# Altium schematic symbol library kmilo17pet-TI_LDO_0_350.SchLib: 1649 symbols (part 50 of 66)
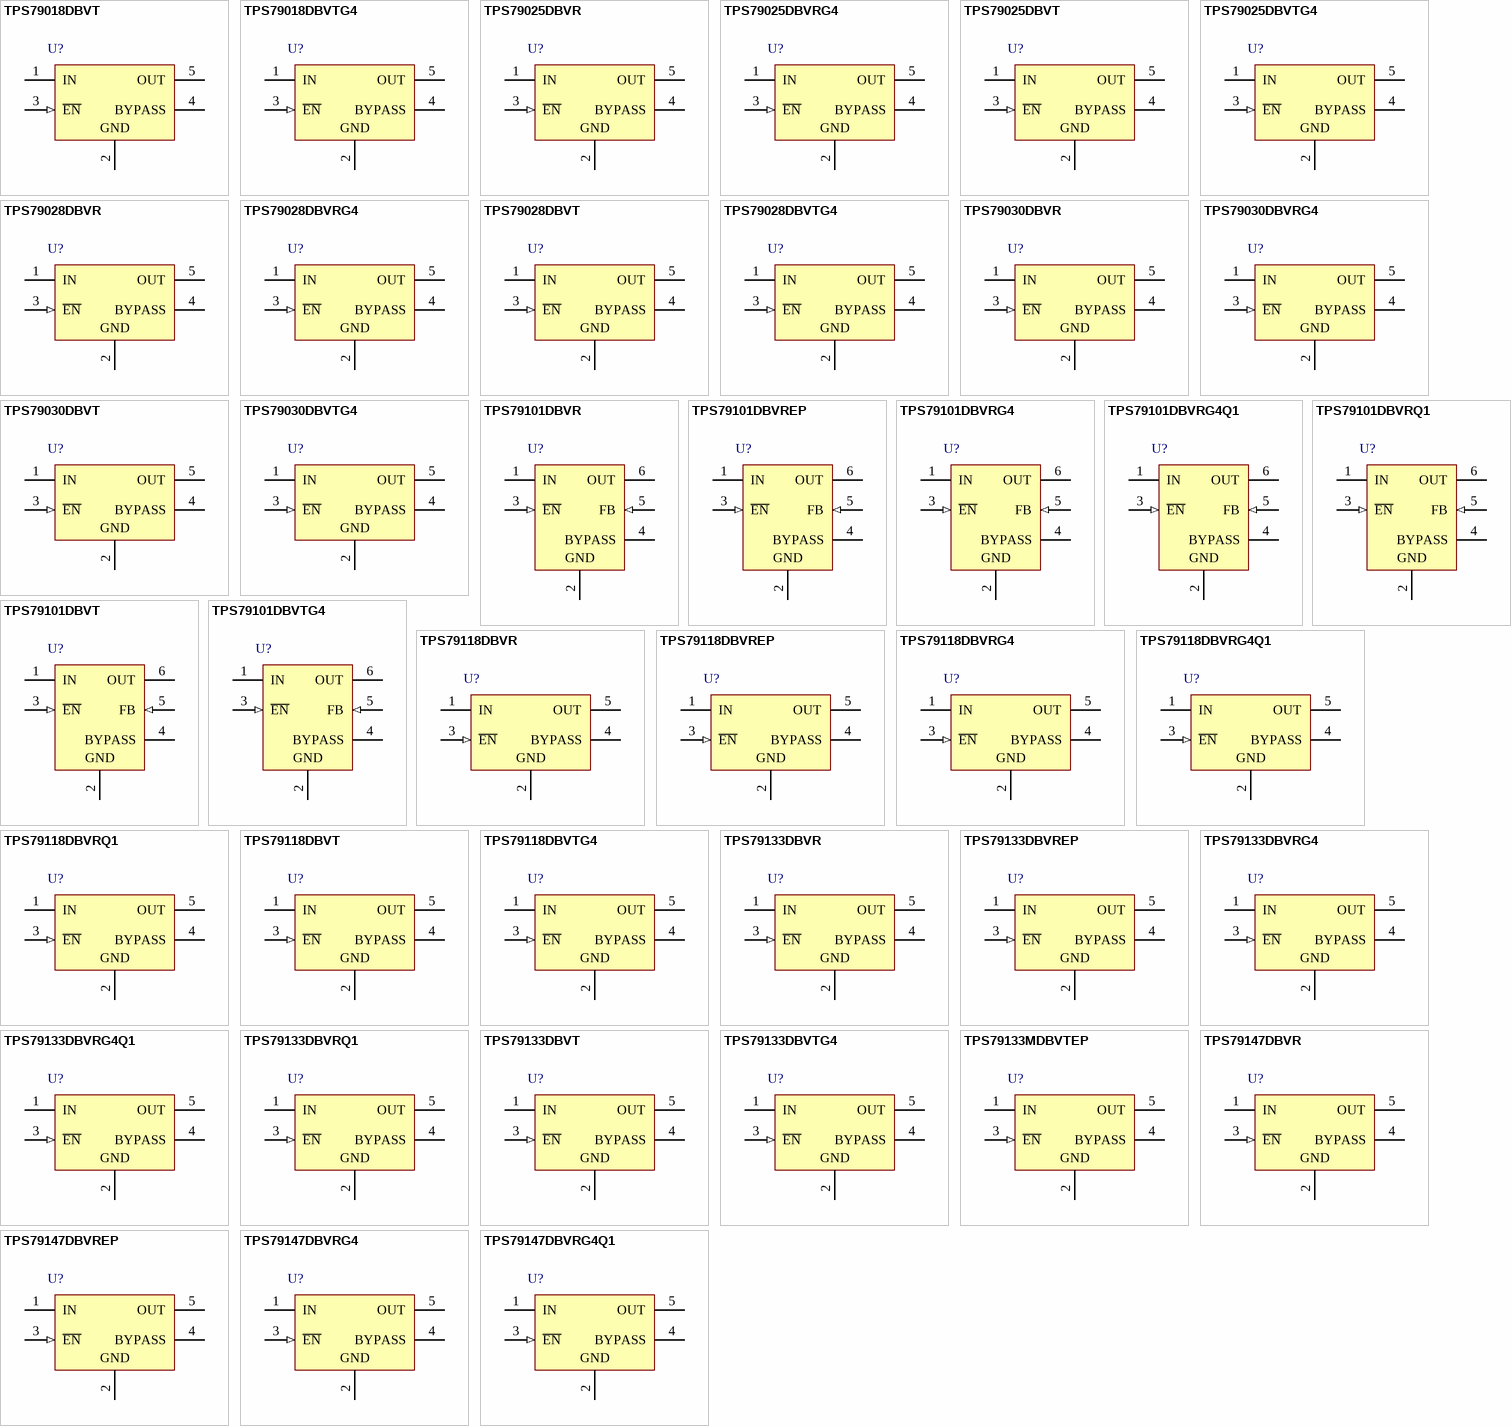
[diagram p91: symbols TPS79018DBVT to TPS79147DBVRG4Q1]

## TPS79133DBVRG4Q1
designator U?
Single Output High PSRR LDO, 100 mA, Fixed 3.3 V Output, 2.7 to 5.5 V Input, 5-pin SOT-23 (DBV), -40 to 125 degC, Green (RoHS & no Sb/Br); Manufacturer: Texas Instruments; PartNumber: TPS79133DBVRG4Q1; Accuracy(%): 2; Fixed Output Options(V): 3.3; Iout(Max)(A): 0.1; Iq(Typ)(mA): 0.2; Rating: Automotive; SubFamily: Single Channel LDO; Vdo(Typ)(mV): 50; Vin(Max)(V): 5.5; Vin(Min)(V): 2.7; DatasheetVersion: SGLS160B; PackageVersion: 4073253-4/K; PackageReference: DBV5; PackageDescription: 5-Pin Plastic Small Outline, Body 1.60 Ã— 2.90 mm, Pitch 0.95 mm; Supplier 1: Digi-Key; Supplier Part Number 1: 296-24442-2-ND; Supplier 2: Digi-Key; Supplier Part Number 2: 296-24442-1-ND; Supplier 3: Digi-Key; Supplier Part Number 3: 296-24442-6-ND; Supplier 4: Mouser; Supplier Part Number 4: 595-TPS79133DBVRG4Q1; Eco-Plan: Green (RoHS & no Sb/Br); Vout Adj(Max)(V): 3.3; Vout Adj(Min)(V): 3.3; Mounting Technology: Surface Mount; Code_JEDEC: MO-178; ComponentLink1Description: Manufacturer URL; ComponentLink1URL: http://www.ti.com/; ComponentLink2Description: Datasheet; ComponentLink2URL: http://www.ti.com/general/docs/lit/getliterature.tsp?genericPartNumber=TPS79133-Q1&fileType=pdf; ComponentLink3Description: Package Specification; ComponentLink3URL: http://www.ti.com/litv/pdf/mpds018i; ComponentLink4Description: URL Link1; ComponentLink4URL: Samples URL:http://www.ti.com/product/tps79133-q1#samples
footprint TI-DBV5_N (SOT23, 5-Leads, Body 2.9x1.6mm, Pitch 0.95mm, IPC Medium Density)
footprint TI-DBV5_L (SOT23, 5-Leads, Body 2.9x1.6mm, Pitch 0.95mm, IPC High Density)
footprint TI-DBV5_M (SOT23, 5-Leads, Body 2.9x1.6mm, Pitch 0.95mm, IPC Low Density)
pins: 1 IN (power) "The IN terminal is the input to the device.", 2 GND (power) "Regulator ground", 3 ~{EN} (in) "The E\N\ terminal is an input which enables or shuts down the device. When E\N\ is a logic high, the device will be in shutdown mode. When E\N\ is a logic low, the device will be enabled.", 4 BYPASS "An external bypass capacitor, connected to this terminal, in conjunction with an internal resistor, creates a low-pass filter to further reduce regulator noise.", 5 OUT (power) "The OUT terminal is the regulated output of the device."

## TPS79133DBVRQ1
designator U?
Single Output High PSRR LDO, 100 mA, Fixed 3.3 V Output, 2.7 to 5.5 V Input, 5-pin SOT-23 (DBV), -40 to 125 degC, Green (RoHS & no Sb/Br); Manufacturer: Texas Instruments; PartNumber: TPS79133DBVRQ1; Accuracy(%): 2; Fixed Output Options(V): 3.3; Iout(Max)(A): 0.1; Iq(Typ)(mA): 0.2; Rating: Automotive; SubFamily: Single Channel LDO; Vdo(Typ)(mV): 50; Vin(Max)(V): 5.5; Vin(Min)(V): 2.7; DatasheetVersion: SGLS160B; PackageVersion: 4073253-4/K; PackageReference: DBV5; PackageDescription: 5-Pin Plastic Small Outline, Body 1.60 Ã— 2.90 mm, Pitch 0.95 mm; Supplier 1: Digi-Key; Supplier Part Number 1: 296-15304-2-ND; Supplier 2: Digi-Key; Supplier Part Number 2: 296-15304-1-ND; Supplier 3: Digi-Key; Supplier Part Number 3: 296-15304-6-ND; Supplier 4: Mouser; Supplier Part Number 4: 595-TPS79133DBVRQ1; Eco-Plan: Green (RoHS & no Sb/Br); Vout Adj(Max)(V): 3.3; Vout Adj(Min)(V): 3.3; Mounting Technology: Surface Mount; Code_JEDEC: MO-178; ComponentLink1Description: Manufacturer URL; ComponentLink1URL: http://www.ti.com/; ComponentLink2Description: Datasheet; ComponentLink2URL: http://www.ti.com/general/docs/lit/getliterature.tsp?genericPartNumber=TPS79133-Q1&fileType=pdf; ComponentLink3Description: Package Specification; ComponentLink3URL: http://www.ti.com/litv/pdf/mpds018i; ComponentLink4Description: URL Link1; ComponentLink4URL: Samples URL:http://www.ti.com/product/tps79133-q1#samples
footprint TI-DBV5_N (SOT23, 5-Leads, Body 2.9x1.6mm, Pitch 0.95mm, IPC Medium Density)
footprint TI-DBV5_L (SOT23, 5-Leads, Body 2.9x1.6mm, Pitch 0.95mm, IPC High Density)
footprint TI-DBV5_M (SOT23, 5-Leads, Body 2.9x1.6mm, Pitch 0.95mm, IPC Low Density)
pins: 1 IN (power) "The IN terminal is the input to the device.", 2 GND (power) "Regulator ground", 3 ~{EN} (in) "The E\N\ terminal is an input which enables or shuts down the device. When E\N\ is a logic high, the device will be in shutdown mode. When E\N\ is a logic low, the device will be enabled.", 4 BYPASS "An external bypass capacitor, connected to this terminal, in conjunction with an internal resistor, creates a low-pass filter to further reduce regulator noise.", 5 OUT (power) "The OUT terminal is the regulated output of the device."

## TPS79133DBVT
designator U?
Single Output High PSRR LDO, 100 mA, Fixed 3.3 V Output, 2.7 to 5.5 V Input, 5-pin SOT-23 (DBV), -40 to 125 degC, Green (RoHS & no Sb/Br); Manufacturer: Texas Instruments; PartNumber: TPS79133DBVT; Accuracy(%): 2; Fixed Output Options(V): 3.3; Iout(Max)(A): 0.1; Iq(Typ)(mA): 0.2; Rating: Catalog; SubFamily: Single Channel LDO; Vdo(Typ)(mV): 50; Vin(Max)(V): 5.5; Vin(Min)(V): 2.7; DatasheetVersion: SLVS325C; PackageVersion: 4073253-4/K; PackageReference: DBV5; PackageDescription: 5-Pin Plastic Small Outline, Body 1.60 Ã— 2.90 mm, Pitch 0.95 mm; Supplier 1: Digi-Key; Supplier Part Number 1: 296-27096-2-ND; Supplier 2: Digi-Key; Supplier Part Number 2: 296-27096-1-ND; Supplier 3: Digi-Key; Supplier Part Number 3: 296-27096-6-ND; Supplier 4: Farnell; Supplier Part Number 4: 8461767; Supplier 5: Farnell; Supplier Part Number 5: 8461767RL; Supplier 6: Newark; Supplier Part Number 6: 77C1347; Supplier 7: Mouser; Supplier Part Number 7: 595-TPS79133DBVT; Eco-Plan: Green (RoHS & no Sb/Br); Vout Adj(Max)(V): 3.3; Vout Adj(Min)(V): 3.3; Mounting Technology: Surface Mount; Code_JEDEC: MO-178; ComponentLink1Description: Manufacturer URL; ComponentLink1URL: http://www.ti.com/; ComponentLink2Description: Datasheet; ComponentLink2URL: http://www.ti.com/general/docs/lit/getliterature.tsp?genericPartNumber=TPS79133&fileType=pdf; ComponentLink3Description: Package Specification; ComponentLink3URL: http://www.ti.com/litv/pdf/mpds018i; ComponentLink4Description: URL Link1; ComponentLink4URL: Samples URL:http://www.ti.com/product/tps79133#samples
footprint TI-DBV5_N (SOT23, 5-Leads, Body 2.9x1.6mm, Pitch 0.95mm, IPC Medium Density)
footprint TI-DBV5_L (SOT23, 5-Leads, Body 2.9x1.6mm, Pitch 0.95mm, IPC High Density)
footprint TI-DBV5_M (SOT23, 5-Leads, Body 2.9x1.6mm, Pitch 0.95mm, IPC Low Density)
pins: 1 IN (power) "The IN terminal is the input to the device.", 2 GND (power) "Regulator ground", 3 ~{EN} (in) "The E\N\ terminal is an input which enables or shuts down the device. When E\N\ is a logic high, the device will be in shutdown mode. When E\N\ is a logic low, the device will be enabled.", 4 BYPASS "An external bypass capacitor, connected to this terminal, in conjunction with an internal resistor, creates a low-pass filter to further reduce regulator noise.", 5 OUT (power) "The OUT terminal is the regulated output of the device."

## TPS79133DBVTG4
designator U?
Single Output High PSRR LDO, 100 mA, Fixed 3.3 V Output, 2.7 to 5.5 V Input, 5-pin SOT-23 (DBV), -40 to 125 degC, Green (RoHS & no Sb/Br); Manufacturer: Texas Instruments; PartNumber: TPS79133DBVTG4; Accuracy(%): 2; Fixed Output Options(V): 3.3; Iout(Max)(A): 0.1; Iq(Typ)(mA): 0.2; Rating: Catalog; SubFamily: Single Channel LDO; Vdo(Typ)(mV): 50; Vin(Max)(V): 5.5; Vin(Min)(V): 2.7; DatasheetVersion: SLVS325C; PackageVersion: 4073253-4/K; PackageReference: DBV5; PackageDescription: 5-Pin Plastic Small Outline, Body 1.60 Ã— 2.90 mm, Pitch 0.95 mm; Supplier 1: Digi-Key; Supplier Part Number 1: TPS79133DBVTG4-ND; Supplier 2: Newark; Supplier Part Number 2: 71J8291; Supplier 3: Mouser; Supplier Part Number 3: 595-TPS79133DBVTG4; Eco-Plan: Green (RoHS & no Sb/Br); Vout Adj(Max)(V): 3.3; Vout Adj(Min)(V): 3.3; Mounting Technology: Surface Mount; Code_JEDEC: MO-178; ComponentLink1Description: Manufacturer URL; ComponentLink1URL: http://www.ti.com/; ComponentLink2Description: Datasheet; ComponentLink2URL: http://www.ti.com/general/docs/lit/getliterature.tsp?genericPartNumber=TPS79133&fileType=pdf; ComponentLink3Description: Package Specification; ComponentLink3URL: http://www.ti.com/litv/pdf/mpds018i; ComponentLink4Description: URL Link1; ComponentLink4URL: Samples URL:http://www.ti.com/product/tps79133#samples
footprint TI-DBV5_N (SOT23, 5-Leads, Body 2.9x1.6mm, Pitch 0.95mm, IPC Medium Density)
footprint TI-DBV5_L (SOT23, 5-Leads, Body 2.9x1.6mm, Pitch 0.95mm, IPC High Density)
footprint TI-DBV5_M (SOT23, 5-Leads, Body 2.9x1.6mm, Pitch 0.95mm, IPC Low Density)
pins: 1 IN (power) "The IN terminal is the input to the device.", 2 GND (power) "Regulator ground", 3 ~{EN} (in) "The E\N\ terminal is an input which enables or shuts down the device. When E\N\ is a logic high, the device will be in shutdown mode. When E\N\ is a logic low, the device will be enabled.", 4 BYPASS "An external bypass capacitor, connected to this terminal, in conjunction with an internal resistor, creates a low-pass filter to further reduce regulator noise.", 5 OUT (power) "The OUT terminal is the regulated output of the device."

## TPS79133MDBVTEP
designator U?
Single Output High PSRR LDO, 100 mA, Fixed 3.3 V Output, 2.7 to 5.5 V Input, 5-pin SOT-23 (DBV), -55 to 125 degC, Green (RoHS & no Sb/Br); Manufacturer: Texas Instruments; PartNumber: TPS79133MDBVTEP; Accuracy(%): 2; Fixed Output Options(V): 3.3; Iout(Max)(A): 0.1; Iq(Typ)(mA): 0.2; Rating: HiRel Enhanced Product; SubFamily: Single Channel LDO; Vdo(Typ)(mV): 50; Vin(Max)(V): 5.5; Vin(Min)(V): 2.7; DatasheetVersion: SGLS161A; PackageVersion: 4073253-4/K; PackageReference: DBV5; PackageDescription: 5-Pin Plastic Small Outline, Body 1.60 Ã— 2.90 mm, Pitch 0.95 mm; Supplier 1: Arrow; Supplier Part Number 1: 45937695S8045433N2415; Supplier 2: Digi-Key; Supplier Part Number 2: 296-23592-2-ND; Supplier 3: Digi-Key; Supplier Part Number 3: 296-23592-1-ND; Supplier 4: Digi-Key; Supplier Part Number 4: 296-23592-6-ND; Supplier 5: Newark; Supplier Part Number 5: 79R8614; Supplier 6: Mouser; Supplier Part Number 6: 595-TPS79133MDBVTEP; Eco-Plan: Green (RoHS & no Sb/Br); Vout Adj(Max)(V): 3.3; Vout Adj(Min)(V): 3.3; Mounting Technology: Surface Mount; Code_JEDEC: MO-178; ComponentLink1Description: Manufacturer URL; ComponentLink1URL: http://www.ti.com/; ComponentLink2Description: Datasheet; ComponentLink2URL: http://www.ti.com/general/docs/lit/getliterature.tsp?genericPartNumber=TPS79133-EP&fileType=pdf; ComponentLink3Description: Package Specification; ComponentLink3URL: http://www.ti.com/litv/pdf/mpds018i; ComponentLink4Description: URL Link1; ComponentLink4URL: Samples URL:http://www.ti.com/product/tps79133-ep#samples
footprint TI-DBV5_N (SOT23, 5-Leads, Body 2.9x1.6mm, Pitch 0.95mm, IPC Medium Density)
footprint TI-DBV5_L (SOT23, 5-Leads, Body 2.9x1.6mm, Pitch 0.95mm, IPC High Density)
footprint TI-DBV5_M (SOT23, 5-Leads, Body 2.9x1.6mm, Pitch 0.95mm, IPC Low Density)
pins: 1 IN (power) "The IN terminal is the input to the device.", 2 GND (power) "Regulator ground", 3 ~{EN} (in) "The E\N\ terminal is an input which enables or shuts down the device. When E\N\ is a logic high, the device will be in shutdown mode. When E\N\ is a logic low, the device will be enabled.", 4 BYPASS "An external bypass capacitor, connected to this terminal, in conjunction with an internal resistor, creates a low-pass filter to further reduce regulator noise.", 5 OUT (power) "The OUT terminal is the regulated output of the device."

## TPS79147DBVR
designator U?
Single Output High PSRR LDO, 100 mA, Fixed 4.7 V Output, 2.7 to 5.5 V Input, 5-pin SOT-23 (DBV), -40 to 125 degC, Green (RoHS & no Sb/Br); Manufacturer: Texas Instruments; PartNumber: TPS79147DBVR; Accuracy(%): 2; Fixed Output Options(V): 4.7; Iout(Max)(A): 0.1; Iq(Typ)(mA): 0.2; SubFamily: Single Channel LDO; Vdo(Typ)(mV): 38; Vin(Max)(V): 5.5; Vin(Min)(V): 2.7; DatasheetVersion: SLVS325C; PackageVersion: 4073253-4/K; PackageReference: DBV5; PackageDescription: 5-Pin Plastic Small Outline, Body 1.60 Ã— 2.90 mm, Pitch 0.95 mm; Supplier 1: Digi-Key; Supplier Part Number 1: 296-11867-2-ND; Supplier 2: Digi-Key; Supplier Part Number 2: 296-11867-1-ND; Supplier 3: Digi-Key; Supplier Part Number 3: 296-11867-6-ND; Supplier 4: Newark; Supplier Part Number 4: 77C1348; Supplier 5: Mouser; Supplier Part Number 5: 595-TPS79147DBVR; Eco-Plan: Green (RoHS & no Sb/Br); Vout Adj(Max)(V): 4.7; Vout Adj(Min)(V): 4.7; Mounting Technology: Surface Mount; Code_JEDEC: MO-178; ComponentLink1Description: Manufacturer URL; ComponentLink1URL: http://www.ti.com/; ComponentLink2Description: Datasheet; ComponentLink2URL: http://www.ti.com/general/docs/lit/getliterature.tsp?genericPartNumber=TPS79147&fileType=pdf; ComponentLink3Description: Package Specification; ComponentLink3URL: http://www.ti.com/litv/pdf/mpds018i
footprint TI-DBV5_N (SOT23, 5-Leads, Body 2.9x1.6mm, Pitch 0.95mm, IPC Medium Density)
footprint TI-DBV5_L (SOT23, 5-Leads, Body 2.9x1.6mm, Pitch 0.95mm, IPC High Density)
footprint TI-DBV5_M (SOT23, 5-Leads, Body 2.9x1.6mm, Pitch 0.95mm, IPC Low Density)
pins: 1 IN (power) "The IN terminal is the input to the device.", 2 GND (power) "Regulator ground", 3 ~{EN} (in) "The E\N\ terminal is an input which enables or shuts down the device. When E\N\ is a logic high, the device will be in shutdown mode. When E\N\ is a logic low, the device will be enabled.", 4 BYPASS "An external bypass capacitor, connected to this terminal, in conjunction with an internal resistor, creates a low-pass filter to further reduce regulator noise.", 5 OUT (power) "The OUT terminal is the regulated output of the device."

## TPS79147DBVREP
designator U?
Single Output High PSRR LDO, 100 mA, Fixed 4.7 V Output, 2.7 to 5.5 V Input, 5-pin SOT-23 (DBV), -40 to 125 degC, Green (RoHS & no Sb/Br); Manufacturer: Texas Instruments; PartNumber: TPS79147DBVREP; Accuracy(%): 2; Fixed Output Options(V): 4.7; Iout(Max)(A): 0.1; Iq(Typ)(mA): 0.2; SubFamily: Single Channel LDO; Vdo(Typ)(mV): 38; Vin(Max)(V): 5.5; Vin(Min)(V): 2.7; DatasheetVersion: SGLS161A; PackageVersion: 4073253-4/K; PackageReference: DBV5; PackageDescription: 5-Pin Plastic Small Outline, Body 1.60 Ã— 2.90 mm, Pitch 0.95 mm; Supplier 1: Digi-Key; Supplier Part Number 1: 296-18169-2-ND; Supplier 2: Digi-Key; Supplier Part Number 2: 296-18169-1-ND; Supplier 3: Digi-Key; Supplier Part Number 3: 296-18169-6-ND; Supplier 4: Newark; Supplier Part Number 4: 46M1201; Supplier 5: Mouser; Supplier Part Number 5: 595-TPS79147DBVREP; Eco-Plan: Green (RoHS & no Sb/Br); Vout Adj(Max)(V): 4.7; Vout Adj(Min)(V): 4.7; Mounting Technology: Surface Mount; Code_JEDEC: MO-178; ComponentLink1Description: Manufacturer URL; ComponentLink1URL: http://www.ti.com/; ComponentLink2Description: Datasheet; ComponentLink2URL: http://www.ti.com/general/docs/lit/getliterature.tsp?genericPartNumber=TPS79147-EP&fileType=pdf; ComponentLink3Description: Package Specification; ComponentLink3URL: http://www.ti.com/litv/pdf/mpds018i
footprint TI-DBV5_N (SOT23, 5-Leads, Body 2.9x1.6mm, Pitch 0.95mm, IPC Medium Density)
footprint TI-DBV5_L (SOT23, 5-Leads, Body 2.9x1.6mm, Pitch 0.95mm, IPC High Density)
footprint TI-DBV5_M (SOT23, 5-Leads, Body 2.9x1.6mm, Pitch 0.95mm, IPC Low Density)
pins: 1 IN (power) "The IN terminal is the input to the device.", 2 GND (power) "Regulator ground", 3 ~{EN} (in) "The E\N\ terminal is an input which enables or shuts down the device. When E\N\ is a logic high, the device will be in shutdown mode. When E\N\ is a logic low, the device will be enabled.", 4 BYPASS "An external bypass capacitor, connected to this terminal, in conjunction with an internal resistor, creates a low-pass filter to further reduce regulator noise.", 5 OUT (power) "The OUT terminal is the regulated output of the device."

## TPS79147DBVRG4
designator U?
Single Output High PSRR LDO, 100 mA, Fixed 4.7 V Output, 2.7 to 5.5 V Input, 5-pin SOT-23 (DBV), -40 to 125 degC, Green (RoHS & no Sb/Br); Manufacturer: Texas Instruments; PartNumber: TPS79147DBVRG4; Accuracy(%): 2; Fixed Output Options(V): 4.7; Iout(Max)(A): 0.1; Iq(Typ)(mA): 0.2; SubFamily: Single Channel LDO; Vdo(Typ)(mV): 38; Vin(Max)(V): 5.5; Vin(Min)(V): 2.7; DatasheetVersion: SLVS325C; PackageVersion: 4073253-4/K; PackageReference: DBV5; PackageDescription: 5-Pin Plastic Small Outline, Body 1.60 Ã— 2.90 mm, Pitch 0.95 mm; Supplier 1: Digi-Key; Supplier Part Number 1: TPS79147DBVRG4-ND; Supplier 2: Mouser; Supplier Part Number 2: 595-TPS79147DBVRG4; Eco-Plan: Green (RoHS & no Sb/Br); Vout Adj(Max)(V): 4.7; Vout Adj(Min)(V): 4.7; Mounting Technology: Surface Mount; Code_JEDEC: MO-178; ComponentLink1Description: Manufacturer URL; ComponentLink1URL: http://www.ti.com/; ComponentLink2Description: Datasheet; ComponentLink2URL: http://www.ti.com/general/docs/lit/getliterature.tsp?genericPartNumber=TPS79147&fileType=pdf; ComponentLink3Description: Package Specification; ComponentLink3URL: http://www.ti.com/litv/pdf/mpds018i
footprint TI-DBV5_N (SOT23, 5-Leads, Body 2.9x1.6mm, Pitch 0.95mm, IPC Medium Density)
footprint TI-DBV5_L (SOT23, 5-Leads, Body 2.9x1.6mm, Pitch 0.95mm, IPC High Density)
footprint TI-DBV5_M (SOT23, 5-Leads, Body 2.9x1.6mm, Pitch 0.95mm, IPC Low Density)
pins: 1 IN (power) "The IN terminal is the input to the device.", 2 GND (power) "Regulator ground", 3 ~{EN} (in) "The E\N\ terminal is an input which enables or shuts down the device. When E\N\ is a logic high, the device will be in shutdown mode. When E\N\ is a logic low, the device will be enabled.", 4 BYPASS "An external bypass capacitor, connected to this terminal, in conjunction with an internal resistor, creates a low-pass filter to further reduce regulator noise.", 5 OUT (power) "The OUT terminal is the regulated output of the device."

## TPS79147DBVRG4Q1
designator U?
Single Output High PSRR LDO, 100 mA, Fixed 4.7 V Output, 2.7 to 5.5 V Input, 5-pin SOT-23 (DBV), -40 to 125 degC, Green (RoHS & no Sb/Br); Manufacturer: Texas Instruments; PartNumber: TPS79147DBVRG4Q1; Accuracy(%): 2; Fixed Output Options(V): 4.7; Iout(Max)(A): 0.1; Iq(Typ)(mA): 0.2; SubFamily: Single Channel LDO; Vdo(Typ)(mV): 38; Vin(Max)(V): 5.5; Vin(Min)(V): 2.7; DatasheetVersion: SGLS160B; PackageVersion: 4073253-4/K; PackageReference: DBV5; PackageDescription: 5-Pin Plastic Small Outline, Body 1.60 Ã— 2.90 mm, Pitch 0.95 mm; Supplier 1: Digi-Key; Supplier Part Number 1: TPS79147DBVRG4Q1-ND; Supplier 2: Mouser; Supplier Part Number 2: 595-TPS79147DBVRG4Q1; Eco-Plan: Green (RoHS & no Sb/Br); Vout Adj(Max)(V): 4.7; Vout Adj(Min)(V): 4.7; Mounting Technology: Surface Mount; Code_JEDEC: MO-178; ComponentLink1Description: Manufacturer URL; ComponentLink1URL: http://www.ti.com/; ComponentLink2Description: Datasheet; ComponentLink2URL: http://www.ti.com/general/docs/lit/getliterature.tsp?genericPartNumber=TPS79147-Q1&fileType=pdf; ComponentLink3Description: Package Specification; ComponentLink3URL: http://www.ti.com/litv/pdf/mpds018i
footprint TI-DBV5_N (SOT23, 5-Leads, Body 2.9x1.6mm, Pitch 0.95mm, IPC Medium Density)
footprint TI-DBV5_L (SOT23, 5-Leads, Body 2.9x1.6mm, Pitch 0.95mm, IPC High Density)
footprint TI-DBV5_M (SOT23, 5-Leads, Body 2.9x1.6mm, Pitch 0.95mm, IPC Low Density)
pins: 1 IN (power) "The IN terminal is the input to the device.", 2 GND (power) "Regulator ground", 3 ~{EN} (in) "The E\N\ terminal is an input which enables or shuts down the device. When E\N\ is a logic high, the device will be in shutdown mode. When E\N\ is a logic low, the device will be enabled.", 4 BYPASS "An external bypass capacitor, connected to this terminal, in conjunction with an internal resistor, creates a low-pass filter to further reduce regulator noise.", 5 OUT (power) "The OUT terminal is the regulated output of the device."

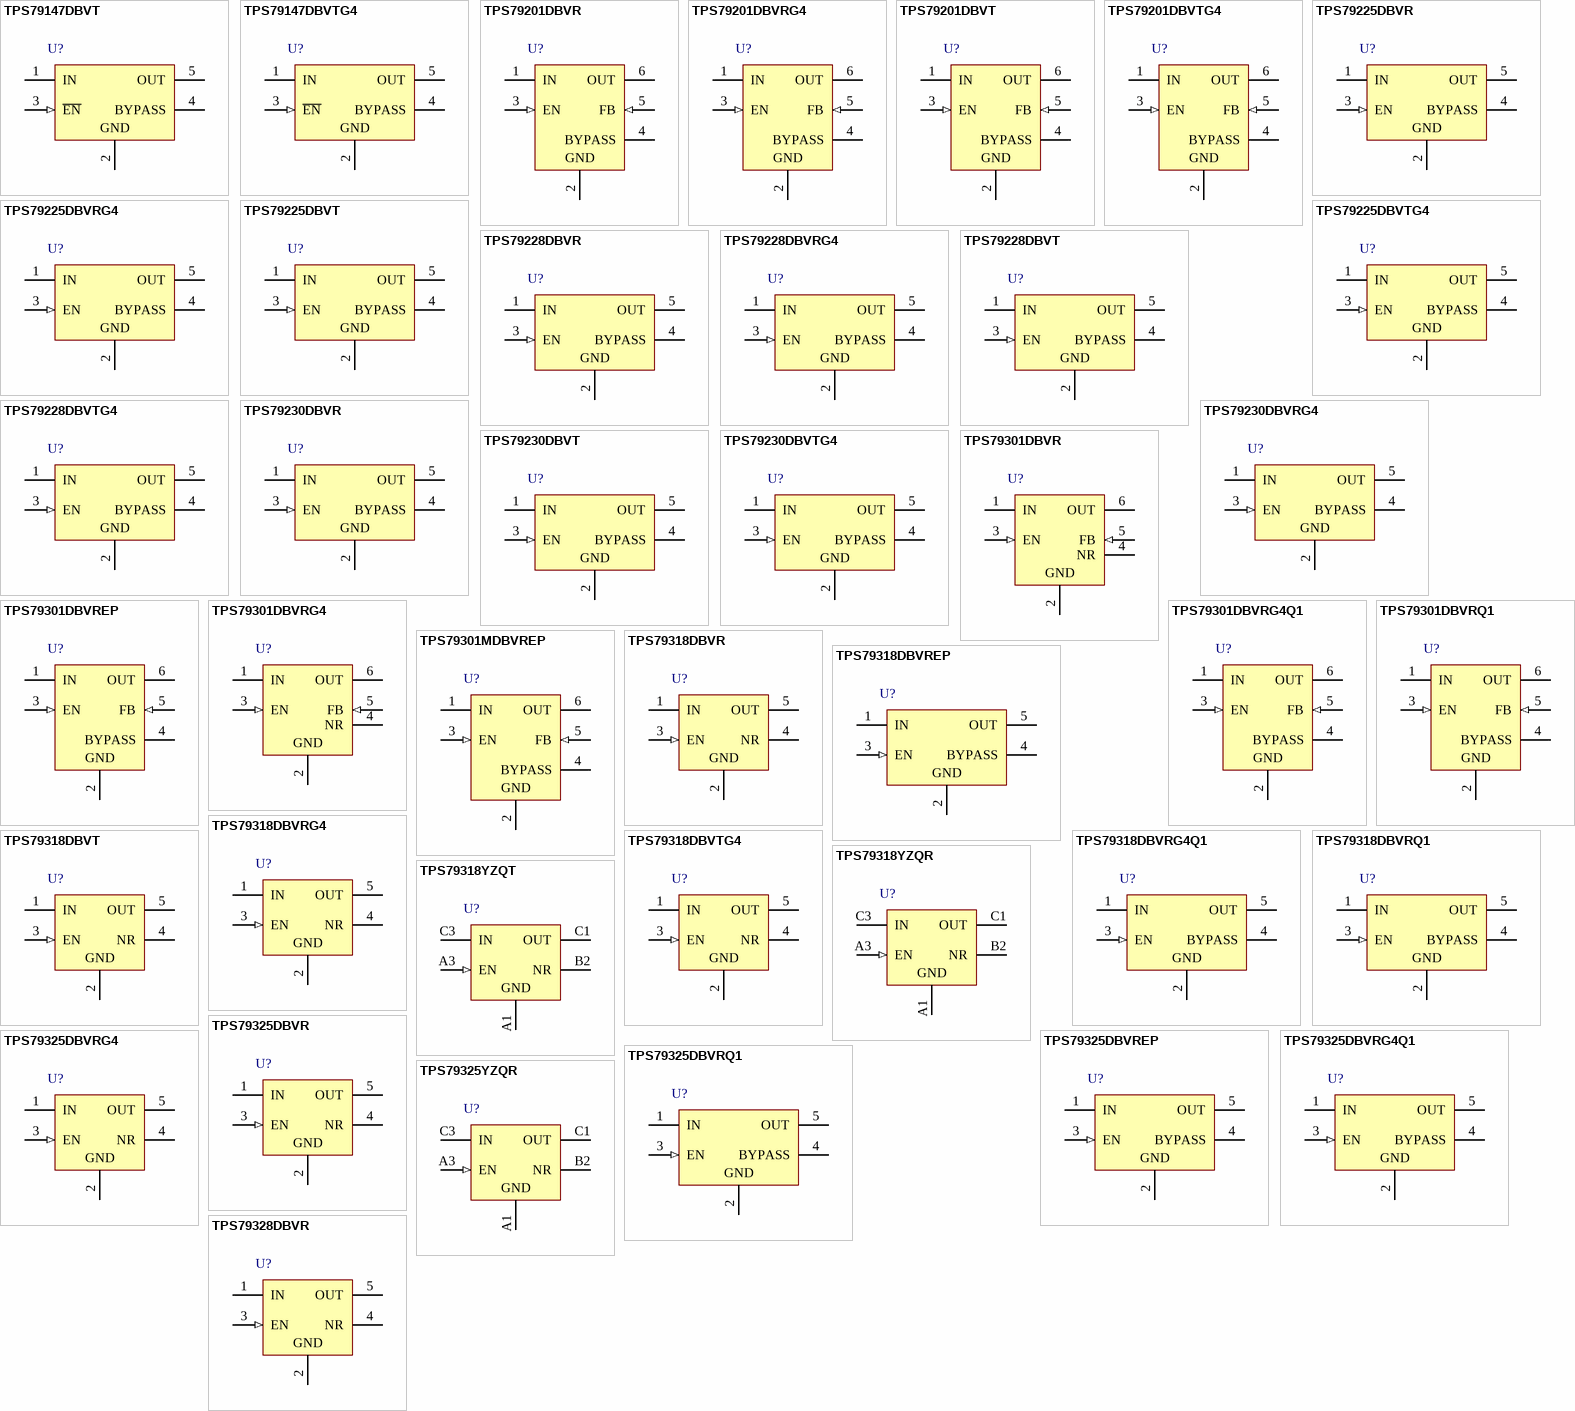
[diagram p33: symbols TPS79147DBVT to TPS79328DBVR]

## TPS79147DBVT
designator U?
Single Output High PSRR LDO, 100 mA, Fixed 4.7 V Output, 2.7 to 5.5 V Input, 5-pin SOT-23 (DBV), -40 to 125 degC, Green (RoHS & no Sb/Br); Manufacturer: Texas Instruments; PartNumber: TPS79147DBVT; Accuracy(%): 2; Fixed Output Options(V): 4.7; Iout(Max)(A): 0.1; Iq(Typ)(mA): 0.2; SubFamily: Single Channel LDO; Vdo(Typ)(mV): 38; Vin(Max)(V): 5.5; Vin(Min)(V): 2.7; DatasheetVersion: SLVS325C; PackageVersion: 4073253-4/K; PackageReference: DBV5; PackageDescription: 5-Pin Plastic Small Outline, Body 1.60 Ã— 2.90 mm, Pitch 0.95 mm; Supplier 1: Digi-Key; Supplier Part Number 1: 296-13707-2-ND; Supplier 2: Digi-Key; Supplier Part Number 2: 296-13707-1-ND; Supplier 3: Digi-Key; Supplier Part Number 3: 296-13707-6-ND; Supplier 4: Newark; Supplier Part Number 4: 02E7258; Supplier 5: Mouser; Supplier Part Number 5: 595-TPS79147DBVT; Eco-Plan: Green (RoHS & no Sb/Br); Vout Adj(Max)(V): 4.7; Vout Adj(Min)(V): 4.7; Mounting Technology: Surface Mount; Code_JEDEC: MO-178; ComponentLink1Description: Manufacturer URL; ComponentLink1URL: http://www.ti.com/; ComponentLink2Description: Datasheet; ComponentLink2URL: http://www.ti.com/general/docs/lit/getliterature.tsp?genericPartNumber=TPS79147&fileType=pdf; ComponentLink3Description: Package Specification; ComponentLink3URL: http://www.ti.com/litv/pdf/mpds018i
footprint TI-DBV5_N (SOT23, 5-Leads, Body 2.9x1.6mm, Pitch 0.95mm, IPC Medium Density)
footprint TI-DBV5_L (SOT23, 5-Leads, Body 2.9x1.6mm, Pitch 0.95mm, IPC High Density)
footprint TI-DBV5_M (SOT23, 5-Leads, Body 2.9x1.6mm, Pitch 0.95mm, IPC Low Density)
pins: 1 IN (power) "The IN terminal is the input to the device.", 2 GND (power) "Regulator ground", 3 ~{EN} (in) "The E\N\ terminal is an input which enables or shuts down the device. When E\N\ is a logic high, the device will be in shutdown mode. When E\N\ is a logic low, the device will be enabled.", 4 BYPASS "An external bypass capacitor, connected to this terminal, in conjunction with an internal resistor, creates a low-pass filter to further reduce regulator noise.", 5 OUT (power) "The OUT terminal is the regulated output of the device."

## TPS79147DBVTG4
designator U?
Single Output High PSRR LDO, 100 mA, Fixed 4.7 V Output, 2.7 to 5.5 V Input, 5-pin SOT-23 (DBV), -40 to 125 degC, Green (RoHS & no Sb/Br); Manufacturer: Texas Instruments; PartNumber: TPS79147DBVTG4; Accuracy(%): 2; Fixed Output Options(V): 4.7; Iout(Max)(A): 0.1; Iq(Typ)(mA): 0.2; SubFamily: Single Channel LDO; Vdo(Typ)(mV): 38; Vin(Max)(V): 5.5; Vin(Min)(V): 2.7; DatasheetVersion: SLVS325C; PackageVersion: 4073253-4/K; PackageReference: DBV5; PackageDescription: 5-Pin Plastic Small Outline, Body 1.60 Ã— 2.90 mm, Pitch 0.95 mm; Supplier 1: Digi-Key; Supplier Part Number 1: TPS79147DBVTG4-ND; Supplier 2: Newark; Supplier Part Number 2: 33K7830; Supplier 3: Mouser; Supplier Part Number 3: 595-TPS79147DBVTG4; Eco-Plan: Green (RoHS & no Sb/Br); Vout Adj(Max)(V): 4.7; Vout Adj(Min)(V): 4.7; Mounting Technology: Surface Mount; Code_JEDEC: MO-178; ComponentLink1Description: Manufacturer URL; ComponentLink1URL: http://www.ti.com/; ComponentLink2Description: Datasheet; ComponentLink2URL: http://www.ti.com/general/docs/lit/getliterature.tsp?genericPartNumber=TPS79147&fileType=pdf; ComponentLink3Description: Package Specification; ComponentLink3URL: http://www.ti.com/litv/pdf/mpds018i
footprint TI-DBV5_N (SOT23, 5-Leads, Body 2.9x1.6mm, Pitch 0.95mm, IPC Medium Density)
footprint TI-DBV5_L (SOT23, 5-Leads, Body 2.9x1.6mm, Pitch 0.95mm, IPC High Density)
footprint TI-DBV5_M (SOT23, 5-Leads, Body 2.9x1.6mm, Pitch 0.95mm, IPC Low Density)
pins: 1 IN (power) "The IN terminal is the input to the device.", 2 GND (power) "Regulator ground", 3 ~{EN} (in) "The E\N\ terminal is an input which enables or shuts down the device. When E\N\ is a logic high, the device will be in shutdown mode. When E\N\ is a logic low, the device will be enabled.", 4 BYPASS "An external bypass capacitor, connected to this terminal, in conjunction with an internal resistor, creates a low-pass filter to further reduce regulator noise.", 5 OUT (power) "The OUT terminal is the regulated output of the device."

## TPS79201DBVR
designator U?
Single Output High PSRR LDO, 100 mA, Adjustable 1.2 to 5.5 V Output, 2.7 to 5.5 V Input, 6-pin SOT-23 (DBV), -40 to 125 degC, Green (RoHS & no Sb/Br); Manufacturer: Texas Instruments; PartNumber: TPS79201DBVR; Accuracy(%): 2; Iout(Max)(A): 0.1; Iq(Typ)(mA): 0.2; Rating: Catalog; SubFamily: Single Channel LDO; Vdo(Typ)(mV): 55; Vin(Max)(V): 5.5; Vin(Min)(V): 2.7; Vout Adj(Min)(V): 1.2; DatasheetVersion: SLVS337B; PackageVersion: 4073253-5/K; PackageReference: DBV6; PackageDescription: 6-Pin Plastic Small Outline, Body 1.60 Ã— 2.90 mm, Pitch 0.95 mm; Supplier 1: Digi-Key; Supplier Part Number 1: 296-11868-2-ND; Supplier 2: Digi-Key; Supplier Part Number 2: 296-11868-1-ND; Supplier 3: Digi-Key; Supplier Part Number 3: 296-11868-6-ND; Supplier 4: Farnell; Supplier Part Number 4: 1698225; Supplier 5: Newark; Supplier Part Number 5: 77C1349; Supplier 6: Mouser; Supplier Part Number 6: 595-TPS79201DBVR; Eco-Plan: Green (RoHS & no Sb/Br); Vout Adj(Max)(V): 5.5; Mounting Technology: Surface Mount; Code_JEDEC: MO-178; ComponentLink1Description: Manufacturer URL; ComponentLink1URL: http://www.ti.com/; ComponentLink2Description: Datasheet; ComponentLink2URL: http://www.ti.com/general/docs/lit/getliterature.tsp?genericPartNumber=TPS79201&fileType=pdf; ComponentLink3Description: Package Specification; ComponentLink3URL: http://www.ti.com/litv/pdf/mpds026h; ComponentLink4Description: URL Link1; ComponentLink4URL: Samples URL:http://www.ti.com/product/tps79201#samples
footprint TI-DBV6_N (SOT-23, 6-Leads, Body 2.90x1.60mm, Pitch 0.95mm, IPC Medium Density)
footprint TI-DBV6_L (SOT-23, 6-Leads, Body 2.90x1.60mm, Pitch 0.95mm, IPC High Density)
footprint TI-DBV6_M (SOT-23, 6-Leads, Body 2.90x1.60mm, Pitch 0.95mm, IPC Low Density)
pins: 1 IN (power) "Input to the device", 2 GND (power) "Regulator ground", 3 EN (in) "Enable input that enables or shuts down the device. When EN goes to a logic high, the device is enabled. When the device goes to a logic low, the devices is in shutdown mode.", 4 BYPASS "An external bypass capacitor, connected to this terminal, in conjunction with an internal resistor, creates a low-pass filter to further reduce regulator noise.", 5 FB (in) "Feedback input voltage for the adjustable device", 6 OUT (power) "Regulated output of the device"

## TPS79201DBVRG4
designator U?
Single Output High PSRR LDO, 100 mA, Adjustable 1.2 to 5.5 V Output, 2.7 to 5.5 V Input, 6-pin SOT-23 (DBV), -40 to 125 degC, Green (RoHS & no Sb/Br); Manufacturer: Texas Instruments; PartNumber: TPS79201DBVRG4; Accuracy(%): 2; Iout(Max)(A): 0.1; Iq(Typ)(mA): 0.2; Rating: Catalog; SubFamily: Single Channel LDO; Vdo(Typ)(mV): 55; Vin(Max)(V): 5.5; Vin(Min)(V): 2.7; Vout Adj(Min)(V): 1.2; DatasheetVersion: SLVS337B; PackageVersion: 4073253-5/K; PackageReference: DBV6; PackageDescription: 6-Pin Plastic Small Outline, Body 1.60 Ã— 2.90 mm, Pitch 0.95 mm; Supplier 1: Digi-Key; Supplier Part Number 1: TPS79201DBVRG4-ND; Supplier 2: Mouser; Supplier Part Number 2: 595-TPS79201DBVRG4; Eco-Plan: Green (RoHS & no Sb/Br); Vout Adj(Max)(V): 5.5; Mounting Technology: Surface Mount; Code_JEDEC: MO-178; ComponentLink1Description: Manufacturer URL; ComponentLink1URL: http://www.ti.com/; ComponentLink2Description: Datasheet; ComponentLink2URL: http://www.ti.com/general/docs/lit/getliterature.tsp?genericPartNumber=TPS79201&fileType=pdf; ComponentLink3Description: Package Specification; ComponentLink3URL: http://www.ti.com/litv/pdf/mpds026h; ComponentLink4Description: URL Link1; ComponentLink4URL: Samples URL:http://www.ti.com/product/tps79201#samples
footprint TI-DBV6_N (SOT-23, 6-Leads, Body 2.90x1.60mm, Pitch 0.95mm, IPC Medium Density)
footprint TI-DBV6_L (SOT-23, 6-Leads, Body 2.90x1.60mm, Pitch 0.95mm, IPC High Density)
footprint TI-DBV6_M (SOT-23, 6-Leads, Body 2.90x1.60mm, Pitch 0.95mm, IPC Low Density)
pins: 1 IN (power) "Input to the device", 2 GND (power) "Regulator ground", 3 EN (in) "Enable input that enables or shuts down the device. When EN goes to a logic high, the device is enabled. When the device goes to a logic low, the devices is in shutdown mode.", 4 BYPASS "An external bypass capacitor, connected to this terminal, in conjunction with an internal resistor, creates a low-pass filter to further reduce regulator noise.", 5 FB (in) "Feedback input voltage for the adjustable device", 6 OUT (power) "Regulated output of the device"

## TPS79201DBVT
designator U?
Single Output High PSRR LDO, 100 mA, Adjustable 1.2 to 5.5 V Output, 2.7 to 5.5 V Input, 6-pin SOT-23 (DBV), -40 to 125 degC, Green (RoHS & no Sb/Br); Manufacturer: Texas Instruments; PartNumber: TPS79201DBVT; Accuracy(%): 2; Iout(Max)(A): 0.1; Iq(Typ)(mA): 0.2; Rating: Catalog; SubFamily: Single Channel LDO; Vdo(Typ)(mV): 55; Vin(Max)(V): 5.5; Vin(Min)(V): 2.7; Vout Adj(Min)(V): 1.2; DatasheetVersion: SLVS337B; PackageVersion: 4073253-5/K; PackageReference: DBV6; PackageDescription: 6-Pin Plastic Small Outline, Body 1.60 Ã— 2.90 mm, Pitch 0.95 mm; Supplier 1: Digi-Key; Supplier Part Number 1: 296-27097-2-ND; Supplier 2: Digi-Key; Supplier Part Number 2: 296-27097-1-ND; Supplier 3: Digi-Key; Supplier Part Number 3: 296-27097-6-ND; Supplier 4: Mouser; Supplier Part Number 4: 595-TPS79201DBVT; Eco-Plan: Green (RoHS & no Sb/Br); Vout Adj(Max)(V): 5.5; Mounting Technology: Surface Mount; Code_JEDEC: MO-178; ComponentLink1Description: Manufacturer URL; ComponentLink1URL: http://www.ti.com/; ComponentLink2Description: Datasheet; ComponentLink2URL: http://www.ti.com/general/docs/lit/getliterature.tsp?genericPartNumber=TPS79201&fileType=pdf; ComponentLink3Description: Package Specification; ComponentLink3URL: http://www.ti.com/litv/pdf/mpds026h; ComponentLink4Description: URL Link1; ComponentLink4URL: Samples URL:http://www.ti.com/product/tps79201#samples
footprint TI-DBV6_N (SOT-23, 6-Leads, Body 2.90x1.60mm, Pitch 0.95mm, IPC Medium Density)
footprint TI-DBV6_L (SOT-23, 6-Leads, Body 2.90x1.60mm, Pitch 0.95mm, IPC High Density)
footprint TI-DBV6_M (SOT-23, 6-Leads, Body 2.90x1.60mm, Pitch 0.95mm, IPC Low Density)
pins: 1 IN (power) "Input to the device", 2 GND (power) "Regulator ground", 3 EN (in) "Enable input that enables or shuts down the device. When EN goes to a logic high, the device is enabled. When the device goes to a logic low, the devices is in shutdown mode.", 4 BYPASS "An external bypass capacitor, connected to this terminal, in conjunction with an internal resistor, creates a low-pass filter to further reduce regulator noise.", 5 FB (in) "Feedback input voltage for the adjustable device", 6 OUT (power) "Regulated output of the device"

## TPS79201DBVTG4
designator U?
Single Output High PSRR LDO, 100 mA, Adjustable 1.2 to 5.5 V Output, 2.7 to 5.5 V Input, 6-pin SOT-23 (DBV), -40 to 125 degC, Green (RoHS & no Sb/Br); Manufacturer: Texas Instruments; PartNumber: TPS79201DBVTG4; Accuracy(%): 2; Iout(Max)(A): 0.1; Iq(Typ)(mA): 0.2; Rating: Catalog; SubFamily: Single Channel LDO; Vdo(Typ)(mV): 55; Vin(Max)(V): 5.5; Vin(Min)(V): 2.7; Vout Adj(Min)(V): 1.2; DatasheetVersion: SLVS337B; PackageVersion: 4073253-5/K; PackageReference: DBV6; PackageDescription: 6-Pin Plastic Small Outline, Body 1.60 Ã— 2.90 mm, Pitch 0.95 mm; Supplier 1: Digi-Key; Supplier Part Number 1: TPS79201DBVTG4-ND; Supplier 2: Mouser; Supplier Part Number 2: 595-TPS79201DBVTG4; Eco-Plan: Green (RoHS & no Sb/Br); Vout Adj(Max)(V): 5.5; Mounting Technology: Surface Mount; Code_JEDEC: MO-178; ComponentLink1Description: Manufacturer URL; ComponentLink1URL: http://www.ti.com/; ComponentLink2Description: Datasheet; ComponentLink2URL: http://www.ti.com/general/docs/lit/getliterature.tsp?genericPartNumber=TPS79201&fileType=pdf; ComponentLink3Description: Package Specification; ComponentLink3URL: http://www.ti.com/litv/pdf/mpds026h; ComponentLink4Description: URL Link1; ComponentLink4URL: Samples URL:http://www.ti.com/product/tps79201#samples
footprint TI-DBV6_N (SOT-23, 6-Leads, Body 2.90x1.60mm, Pitch 0.95mm, IPC Medium Density)
footprint TI-DBV6_L (SOT-23, 6-Leads, Body 2.90x1.60mm, Pitch 0.95mm, IPC High Density)
footprint TI-DBV6_M (SOT-23, 6-Leads, Body 2.90x1.60mm, Pitch 0.95mm, IPC Low Density)
pins: 1 IN (power) "Input to the device", 2 GND (power) "Regulator ground", 3 EN (in) "Enable input that enables or shuts down the device. When EN goes to a logic high, the device is enabled. When the device goes to a logic low, the devices is in shutdown mode.", 4 BYPASS "An external bypass capacitor, connected to this terminal, in conjunction with an internal resistor, creates a low-pass filter to further reduce regulator noise.", 5 FB (in) "Feedback input voltage for the adjustable device", 6 OUT (power) "Regulated output of the device"

## TPS79225DBVR
designator U?
Single Output High PSRR LDO, 100 mA, Fixed 2.5 V Output, 2.7 to 5.5 V Input, 5-pin SOT-23 (DBV), -40 to 125 degC, Green (RoHS & no Sb/Br); Manufacturer: Texas Instruments; PartNumber: TPS79225DBVR; Accuracy(%): 2; Fixed Output Options(V): 2.5; Iout(Max)(A): 0.1; Iq(Typ)(mA): 0.2; Rating: Catalog; SubFamily: Single Channel LDO; Vdo(Typ)(mV): 55; Vin(Max)(V): 5.5; Vin(Min)(V): 2.7; DatasheetVersion: SLVS337B; PackageVersion: 4073253-4/K; PackageReference: DBV5; PackageDescription: 5-Pin Plastic Small Outline, Body 1.60 Ã— 2.90 mm, Pitch 0.95 mm; Supplier 1: Digi-Key; Supplier Part Number 1: 296-11869-2-ND; Supplier 2: Digi-Key; Supplier Part Number 2: 296-11869-1-ND; Supplier 3: Digi-Key; Supplier Part Number 3: 296-11869-6-ND; Supplier 4: Mouser; Supplier Part Number 4: 595-TPS79225DBVR; Eco-Plan: Green (RoHS & no Sb/Br); Vout Adj(Max)(V): 2.5; Vout Adj(Min)(V): 2.5; Mounting Technology: Surface Mount; Code_JEDEC: MO-178; ComponentLink1Description: Manufacturer URL; ComponentLink1URL: http://www.ti.com/; ComponentLink2Description: Datasheet; ComponentLink2URL: http://www.ti.com/general/docs/lit/getliterature.tsp?genericPartNumber=TPS79225&fileType=pdf; ComponentLink3Description: Package Specification; ComponentLink3URL: http://www.ti.com/litv/pdf/mpds018i; ComponentLink4Description: URL Link1; ComponentLink4URL: Samples URL:http://www.ti.com/product/tps79225#samples
footprint TI-DBV5_N (SOT23, 5-Leads, Body 2.9x1.6mm, Pitch 0.95mm, IPC Medium Density)
footprint TI-DBV5_L (SOT23, 5-Leads, Body 2.9x1.6mm, Pitch 0.95mm, IPC High Density)
footprint TI-DBV5_M (SOT23, 5-Leads, Body 2.9x1.6mm, Pitch 0.95mm, IPC Low Density)
pins: 1 IN (power) "Input to the device", 2 GND (power) "Regulator ground", 3 EN (in) "Enable input that enables or shuts down the device. When EN goes to a logic high, the device is enabled. When the device goes to a logic low, the devices is in shutdown mode.", 4 BYPASS "An external bypass capacitor, connected to this terminal, in conjunction with an internal resistor, creates a low-pass filter to further reduce regulator noise.", 5 OUT (power) "Regulated output of the device"

## TPS79225DBVRG4
designator U?
Single Output High PSRR LDO, 100 mA, Fixed 2.5 V Output, 2.7 to 5.5 V Input, 5-pin SOT-23 (DBV), -40 to 125 degC, Green (RoHS & no Sb/Br); Manufacturer: Texas Instruments; PartNumber: TPS79225DBVRG4; Accuracy(%): 2; Fixed Output Options(V): 2.5; Iout(Max)(A): 0.1; Iq(Typ)(mA): 0.2; Rating: Catalog; SubFamily: Single Channel LDO; Vdo(Typ)(mV): 55; Vin(Max)(V): 5.5; Vin(Min)(V): 2.7; DatasheetVersion: SLVS337B; PackageVersion: 4073253-4/K; PackageReference: DBV5; PackageDescription: 5-Pin Plastic Small Outline, Body 1.60 Ã— 2.90 mm, Pitch 0.95 mm; Supplier 1: Digi-Key; Supplier Part Number 1: TPS79225DBVRG4-ND; Supplier 2: Newark; Supplier Part Number 2: 71J8293; Supplier 3: Mouser; Supplier Part Number 3: 595-TPS79225DBVRG4; Eco-Plan: Green (RoHS & no Sb/Br); Vout Adj(Max)(V): 2.5; Vout Adj(Min)(V): 2.5; Mounting Technology: Surface Mount; Code_JEDEC: MO-178; ComponentLink1Description: Manufacturer URL; ComponentLink1URL: http://www.ti.com/; ComponentLink2Description: Datasheet; ComponentLink2URL: http://www.ti.com/general/docs/lit/getliterature.tsp?genericPartNumber=TPS79225&fileType=pdf; ComponentLink3Description: Package Specification; ComponentLink3URL: http://www.ti.com/litv/pdf/mpds018i; ComponentLink4Description: URL Link1; ComponentLink4URL: Samples URL:http://www.ti.com/product/tps79225#samples
footprint TI-DBV5_N (SOT23, 5-Leads, Body 2.9x1.6mm, Pitch 0.95mm, IPC Medium Density)
footprint TI-DBV5_L (SOT23, 5-Leads, Body 2.9x1.6mm, Pitch 0.95mm, IPC High Density)
footprint TI-DBV5_M (SOT23, 5-Leads, Body 2.9x1.6mm, Pitch 0.95mm, IPC Low Density)
pins: 1 IN (power) "Input to the device", 2 GND (power) "Regulator ground", 3 EN (in) "Enable input that enables or shuts down the device. When EN goes to a logic high, the device is enabled. When the device goes to a logic low, the devices is in shutdown mode.", 4 BYPASS "An external bypass capacitor, connected to this terminal, in conjunction with an internal resistor, creates a low-pass filter to further reduce regulator noise.", 5 OUT (power) "Regulated output of the device"

## TPS79225DBVT
designator U?
Single Output High PSRR LDO, 100 mA, Fixed 2.5 V Output, 2.7 to 5.5 V Input, 5-pin SOT-23 (DBV), -40 to 125 degC, Green (RoHS & no Sb/Br); Manufacturer: Texas Instruments; PartNumber: TPS79225DBVT; Accuracy(%): 2; Fixed Output Options(V): 2.5; Iout(Max)(A): 0.1; Iq(Typ)(mA): 0.2; Rating: Catalog; SubFamily: Single Channel LDO; Vdo(Typ)(mV): 55; Vin(Max)(V): 5.5; Vin(Min)(V): 2.7; DatasheetVersion: SLVS337B; PackageVersion: 4073253-4/K; PackageReference: DBV5; PackageDescription: 5-Pin Plastic Small Outline, Body 1.60 Ã— 2.90 mm, Pitch 0.95 mm; Supplier 1: Digi-Key; Supplier Part Number 1: 296-27098-2-ND; Supplier 2: Digi-Key; Supplier Part Number 2: 296-27098-1-ND; Supplier 3: Digi-Key; Supplier Part Number 3: 296-27098-6-ND; Supplier 4: Newark; Supplier Part Number 4: 77C1352; Supplier 5: Mouser; Supplier Part Number 5: 595-TPS79225DBVT; Eco-Plan: Green (RoHS & no Sb/Br); Vout Adj(Max)(V): 2.5; Vout Adj(Min)(V): 2.5; Mounting Technology: Surface Mount; Code_JEDEC: MO-178; ComponentLink1Description: Manufacturer URL; ComponentLink1URL: http://www.ti.com/; ComponentLink2Description: Datasheet; ComponentLink2URL: http://www.ti.com/general/docs/lit/getliterature.tsp?genericPartNumber=TPS79225&fileType=pdf; ComponentLink3Description: Package Specification; ComponentLink3URL: http://www.ti.com/litv/pdf/mpds018i; ComponentLink4Description: URL Link1; ComponentLink4URL: Samples URL:http://www.ti.com/product/tps79225#samples
footprint TI-DBV5_N (SOT23, 5-Leads, Body 2.9x1.6mm, Pitch 0.95mm, IPC Medium Density)
footprint TI-DBV5_L (SOT23, 5-Leads, Body 2.9x1.6mm, Pitch 0.95mm, IPC High Density)
footprint TI-DBV5_M (SOT23, 5-Leads, Body 2.9x1.6mm, Pitch 0.95mm, IPC Low Density)
pins: 1 IN (power) "Input to the device", 2 GND (power) "Regulator ground", 3 EN (in) "Enable input that enables or shuts down the device. When EN goes to a logic high, the device is enabled. When the device goes to a logic low, the devices is in shutdown mode.", 4 BYPASS "An external bypass capacitor, connected to this terminal, in conjunction with an internal resistor, creates a low-pass filter to further reduce regulator noise.", 5 OUT (power) "Regulated output of the device"

## TPS79225DBVTG4
designator U?
Single Output High PSRR LDO, 100 mA, Fixed 2.5 V Output, 2.7 to 5.5 V Input, 5-pin SOT-23 (DBV), -40 to 125 degC, Green (RoHS & no Sb/Br); Manufacturer: Texas Instruments; PartNumber: TPS79225DBVTG4; Accuracy(%): 2; Fixed Output Options(V): 2.5; Iout(Max)(A): 0.1; Iq(Typ)(mA): 0.2; Rating: Catalog; SubFamily: Single Channel LDO; Vdo(Typ)(mV): 55; Vin(Max)(V): 5.5; Vin(Min)(V): 2.7; DatasheetVersion: SLVS337B; PackageVersion: 4073253-4/K; PackageReference: DBV5; PackageDescription: 5-Pin Plastic Small Outline, Body 1.60 Ã— 2.90 mm, Pitch 0.95 mm; Supplier 1: Digi-Key; Supplier Part Number 1: TPS79225DBVTG4-ND; Supplier 2: Mouser; Supplier Part Number 2: 595-TPS79225DBVTG4; Eco-Plan: Green (RoHS & no Sb/Br); Vout Adj(Max)(V): 2.5; Vout Adj(Min)(V): 2.5; Mounting Technology: Surface Mount; Code_JEDEC: MO-178; ComponentLink1Description: Manufacturer URL; ComponentLink1URL: http://www.ti.com/; ComponentLink2Description: Datasheet; ComponentLink2URL: http://www.ti.com/general/docs/lit/getliterature.tsp?genericPartNumber=TPS79225&fileType=pdf; ComponentLink3Description: Package Specification; ComponentLink3URL: http://www.ti.com/litv/pdf/mpds018i; ComponentLink4Description: URL Link1; ComponentLink4URL: Samples URL:http://www.ti.com/product/tps79225#samples
footprint TI-DBV5_N (SOT23, 5-Leads, Body 2.9x1.6mm, Pitch 0.95mm, IPC Medium Density)
footprint TI-DBV5_L (SOT23, 5-Leads, Body 2.9x1.6mm, Pitch 0.95mm, IPC High Density)
footprint TI-DBV5_M (SOT23, 5-Leads, Body 2.9x1.6mm, Pitch 0.95mm, IPC Low Density)
pins: 1 IN (power) "Input to the device", 2 GND (power) "Regulator ground", 3 EN (in) "Enable input that enables or shuts down the device. When EN goes to a logic high, the device is enabled. When the device goes to a logic low, the devices is in shutdown mode.", 4 BYPASS "An external bypass capacitor, connected to this terminal, in conjunction with an internal resistor, creates a low-pass filter to further reduce regulator noise.", 5 OUT (power) "Regulated output of the device"

## TPS79228DBVR
designator U?
Single Output High PSRR LDO, 100 mA, Fixed 2.8 V Output, 2.7 to 5.5 V Input, 5-pin SOT-23 (DBV), -40 to 125 degC, Green (RoHS & no Sb/Br); Manufacturer: Texas Instruments; PartNumber: TPS79228DBVR; Accuracy(%): 2; Fixed Output Options(V): 2.8; Iout(Max)(A): 0.1; Iq(Typ)(mA): 0.2; Rating: Catalog; SubFamily: Single Channel LDO; Vdo(Typ)(mV): 60; Vin(Max)(V): 5.5; Vin(Min)(V): 2.7; DatasheetVersion: SLVS337B; PackageVersion: 4073253-4/K; PackageReference: DBV5; PackageDescription: 5-Pin Plastic Small Outline, Body 1.60 Ã— 2.90 mm, Pitch 0.95 mm; Supplier 1: Digi-Key; Supplier Part Number 1: 296-11870-2-ND; Supplier 2: Digi-Key; Supplier Part Number 2: 296-11870-1-ND; Supplier 3: Digi-Key; Supplier Part Number 3: 296-11870-6-ND; Supplier 4: Mouser; Supplier Part Number 4: 595-TPS79228DBVR; Eco-Plan: Green (RoHS & no Sb/Br); Vout Adj(Max)(V): 2.8; Vout Adj(Min)(V): 2.8; Mounting Technology: Surface Mount; Code_JEDEC: MO-178; ComponentLink1Description: Manufacturer URL; ComponentLink1URL: http://www.ti.com/; ComponentLink2Description: Datasheet; ComponentLink2URL: http://www.ti.com/general/docs/lit/getliterature.tsp?genericPartNumber=TPS79228&fileType=pdf; ComponentLink3Description: Package Specification; ComponentLink3URL: http://www.ti.com/litv/pdf/mpds018i; ComponentLink4Description: URL Link1; ComponentLink4URL: Samples URL:http://www.ti.com/product/tps79228#samples
footprint TI-DBV5_N (SOT23, 5-Leads, Body 2.9x1.6mm, Pitch 0.95mm, IPC Medium Density)
footprint TI-DBV5_L (SOT23, 5-Leads, Body 2.9x1.6mm, Pitch 0.95mm, IPC High Density)
footprint TI-DBV5_M (SOT23, 5-Leads, Body 2.9x1.6mm, Pitch 0.95mm, IPC Low Density)
pins: 1 IN (power) "Input to the device", 2 GND (power) "Regulator ground", 3 EN (in) "Enable input that enables or shuts down the device. When EN goes to a logic high, the device is enabled. When the device goes to a logic low, the devices is in shutdown mode.", 4 BYPASS "An external bypass capacitor, connected to this terminal, in conjunction with an internal resistor, creates a low-pass filter to further reduce regulator noise.", 5 OUT (power) "Regulated output of the device"

## TPS79228DBVRG4
designator U?
Single Output High PSRR LDO, 100 mA, Fixed 2.8 V Output, 2.7 to 5.5 V Input, 5-pin SOT-23 (DBV), -40 to 125 degC, Green (RoHS & no Sb/Br); Manufacturer: Texas Instruments; PartNumber: TPS79228DBVRG4; Accuracy(%): 2; Fixed Output Options(V): 2.8; Iout(Max)(A): 0.1; Iq(Typ)(mA): 0.2; Rating: Catalog; SubFamily: Single Channel LDO; Vdo(Typ)(mV): 60; Vin(Max)(V): 5.5; Vin(Min)(V): 2.7; DatasheetVersion: SLVS337B; PackageVersion: 4073253-4/K; PackageReference: DBV5; PackageDescription: 5-Pin Plastic Small Outline, Body 1.60 Ã— 2.90 mm, Pitch 0.95 mm; Supplier 1: Digi-Key; Supplier Part Number 1: TPS79228DBVRG4-ND; Supplier 2: Mouser; Supplier Part Number 2: 595-TPS79228DBVRG4; Eco-Plan: Green (RoHS & no Sb/Br); Vout Adj(Max)(V): 2.8; Vout Adj(Min)(V): 2.8; Mounting Technology: Surface Mount; Code_JEDEC: MO-178; ComponentLink1Description: Manufacturer URL; ComponentLink1URL: http://www.ti.com/; ComponentLink2Description: Datasheet; ComponentLink2URL: http://www.ti.com/general/docs/lit/getliterature.tsp?genericPartNumber=TPS79228&fileType=pdf; ComponentLink3Description: Package Specification; ComponentLink3URL: http://www.ti.com/litv/pdf/mpds018i; ComponentLink4Description: URL Link1; ComponentLink4URL: Samples URL:http://www.ti.com/product/tps79228#samples
footprint TI-DBV5_N (SOT23, 5-Leads, Body 2.9x1.6mm, Pitch 0.95mm, IPC Medium Density)
footprint TI-DBV5_L (SOT23, 5-Leads, Body 2.9x1.6mm, Pitch 0.95mm, IPC High Density)
footprint TI-DBV5_M (SOT23, 5-Leads, Body 2.9x1.6mm, Pitch 0.95mm, IPC Low Density)
pins: 1 IN (power) "Input to the device", 2 GND (power) "Regulator ground", 3 EN (in) "Enable input that enables or shuts down the device. When EN goes to a logic high, the device is enabled. When the device goes to a logic low, the devices is in shutdown mode.", 4 BYPASS "An external bypass capacitor, connected to this terminal, in conjunction with an internal resistor, creates a low-pass filter to further reduce regulator noise.", 5 OUT (power) "Regulated output of the device"

## TPS79228DBVT
designator U?
Single Output High PSRR LDO, 100 mA, Fixed 2.8 V Output, 2.7 to 5.5 V Input, 5-pin SOT-23 (DBV), -40 to 125 degC, Green (RoHS & no Sb/Br); Manufacturer: Texas Instruments; PartNumber: TPS79228DBVT; Accuracy(%): 2; Fixed Output Options(V): 2.8; Iout(Max)(A): 0.1; Iq(Typ)(mA): 0.2; Rating: Catalog; SubFamily: Single Channel LDO; Vdo(Typ)(mV): 60; Vin(Max)(V): 5.5; Vin(Min)(V): 2.7; DatasheetVersion: SLVS337B; PackageVersion: 4073253-4/K; PackageReference: DBV5; PackageDescription: 5-Pin Plastic Small Outline, Body 1.60 Ã— 2.90 mm, Pitch 0.95 mm; Supplier 1: Digi-Key; Supplier Part Number 1: TPS79228DBVT-ND; Supplier 2: Mouser; Supplier Part Number 2: 595-TPS79228DBVT; Eco-Plan: Green (RoHS & no Sb/Br); Vout Adj(Max)(V): 2.8; Vout Adj(Min)(V): 2.8; Mounting Technology: Surface Mount; Code_JEDEC: MO-178; ComponentLink1Description: Manufacturer URL; ComponentLink1URL: http://www.ti.com/; ComponentLink2Description: Datasheet; ComponentLink2URL: http://www.ti.com/general/docs/lit/getliterature.tsp?genericPartNumber=TPS79228&fileType=pdf; ComponentLink3Description: Package Specification; ComponentLink3URL: http://www.ti.com/litv/pdf/mpds018i; ComponentLink4Description: URL Link1; ComponentLink4URL: Samples URL:http://www.ti.com/product/tps79228#samples
footprint TI-DBV5_N (SOT23, 5-Leads, Body 2.9x1.6mm, Pitch 0.95mm, IPC Medium Density)
footprint TI-DBV5_L (SOT23, 5-Leads, Body 2.9x1.6mm, Pitch 0.95mm, IPC High Density)
footprint TI-DBV5_M (SOT23, 5-Leads, Body 2.9x1.6mm, Pitch 0.95mm, IPC Low Density)
pins: 1 IN (power) "Input to the device", 2 GND (power) "Regulator ground", 3 EN (in) "Enable input that enables or shuts down the device. When EN goes to a logic high, the device is enabled. When the device goes to a logic low, the devices is in shutdown mode.", 4 BYPASS "An external bypass capacitor, connected to this terminal, in conjunction with an internal resistor, creates a low-pass filter to further reduce regulator noise.", 5 OUT (power) "Regulated output of the device"

## TPS79228DBVTG4
designator U?
Single Output High PSRR LDO, 100 mA, Fixed 2.8 V Output, 2.7 to 5.5 V Input, 5-pin SOT-23 (DBV), -40 to 125 degC, Green (RoHS & no Sb/Br); Manufacturer: Texas Instruments; PartNumber: TPS79228DBVTG4; Accuracy(%): 2; Fixed Output Options(V): 2.8; Iout(Max)(A): 0.1; Iq(Typ)(mA): 0.2; Rating: Catalog; SubFamily: Single Channel LDO; Vdo(Typ)(mV): 60; Vin(Max)(V): 5.5; Vin(Min)(V): 2.7; DatasheetVersion: SLVS337B; PackageVersion: 4073253-4/K; PackageReference: DBV5; PackageDescription: 5-Pin Plastic Small Outline, Body 1.60 Ã— 2.90 mm, Pitch 0.95 mm; Supplier 1: Digi-Key; Supplier Part Number 1: TPS79228DBVTG4-ND; Supplier 2: Mouser; Supplier Part Number 2: 595-TPS79228DBVTG4; Eco-Plan: Green (RoHS & no Sb/Br); Vout Adj(Max)(V): 2.8; Vout Adj(Min)(V): 2.8; Mounting Technology: Surface Mount; Code_JEDEC: MO-178; ComponentLink1Description: Manufacturer URL; ComponentLink1URL: http://www.ti.com/; ComponentLink2Description: Datasheet; ComponentLink2URL: http://www.ti.com/general/docs/lit/getliterature.tsp?genericPartNumber=TPS79228&fileType=pdf; ComponentLink3Description: Package Specification; ComponentLink3URL: http://www.ti.com/litv/pdf/mpds018i; ComponentLink4Description: URL Link1; ComponentLink4URL: Samples URL:http://www.ti.com/product/tps79228#samples
footprint TI-DBV5_N (SOT23, 5-Leads, Body 2.9x1.6mm, Pitch 0.95mm, IPC Medium Density)
footprint TI-DBV5_L (SOT23, 5-Leads, Body 2.9x1.6mm, Pitch 0.95mm, IPC High Density)
footprint TI-DBV5_M (SOT23, 5-Leads, Body 2.9x1.6mm, Pitch 0.95mm, IPC Low Density)
pins: 1 IN (power) "Input to the device", 2 GND (power) "Regulator ground", 3 EN (in) "Enable input that enables or shuts down the device. When EN goes to a logic high, the device is enabled. When the device goes to a logic low, the devices is in shutdown mode.", 4 BYPASS "An external bypass capacitor, connected to this terminal, in conjunction with an internal resistor, creates a low-pass filter to further reduce regulator noise.", 5 OUT (power) "Regulated output of the device"